# EAGLE library part PS_CALEX3.15.5.230 (library 1A-meinLib)
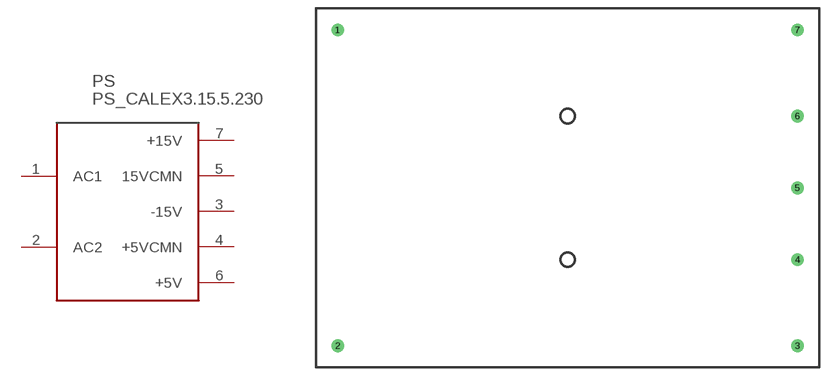
[diagram p26: symbol with the pads of PS_CALEX3.15.5; footprint PS_CALEX3.15.5]

Designator prefix PS

## PS_CALEX3.15.5.230  [PS_CALEX3.15.5]
1  AC1  pwr
2  AC2  pwr
3  -15V  pwr
4  +5VCMN  pwr
5  15VCMN  pwr
6  +5V  pwr
7  +15V  pwr

## Footprint PS_CALEX3.15.5 (pad centres in mm)
drill 1.5 round: 1 0,55.88; 2 0,0; 3 81.28,0; 4 81.28,15.24; 5 81.28,27.94; 6 81.28,40.64; 7 81.28,55.88